# EAGLE library part AS-ITM-00100 (library tinycircuits)
IC PRESSURE SENSOR PIEZO 16HCLGA
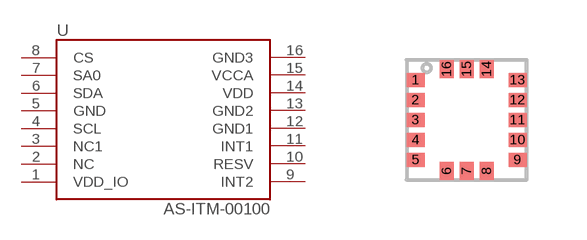
[diagram p42: symbol with the pads of HCLGA-16L; footprint HCLGA-16L]

Designator prefix U

## AS-ITM-00100 (PARTNO: AS-ITM-00100; VALUE: LPS331AP)  [HCLGA-16L]
1  VDD_IO
2  NC
3  NC1
4  SCL
5  GND
6  SDA
7  SA0
8  CS
9  INT2
10  RESV
11  INT1
12  GND1
13  GND2
14  VDD
15  VCCA
16  GND3

## Footprint HCLGA-16L (pad centres in mm)
smd 0.45 x 0.35: 1 -1.275,1; 2 -1.275,0.5; 3 -1.275,0; 4 -1.275,-0.5; 5 -1.275,-1; 9 1.275,-1; 10 1.275,-0.5; 11 1.275,0; 12 1.275,0.5; 13 1.275,1
smd 0.35 x 0.45: 6 -0.5,-1.275; 7 0,-1.275; 8 0.5,-1.275; 14 0.5,1.275; 15 0,1.275; 16 -0.5,1.275